# Altium footprint library final pedal1.PcbLib: 14 footprints
Each footprint in its own frame and in the unit in brackets; x right, y up, seen from the top. Pads: shape width x height; smd on the part's side, far side on the other; paste and mask are expansions set on the pad; w line width, h text height; cw(c..) or ccw(c..) is an arc to the next point about the centre after c.
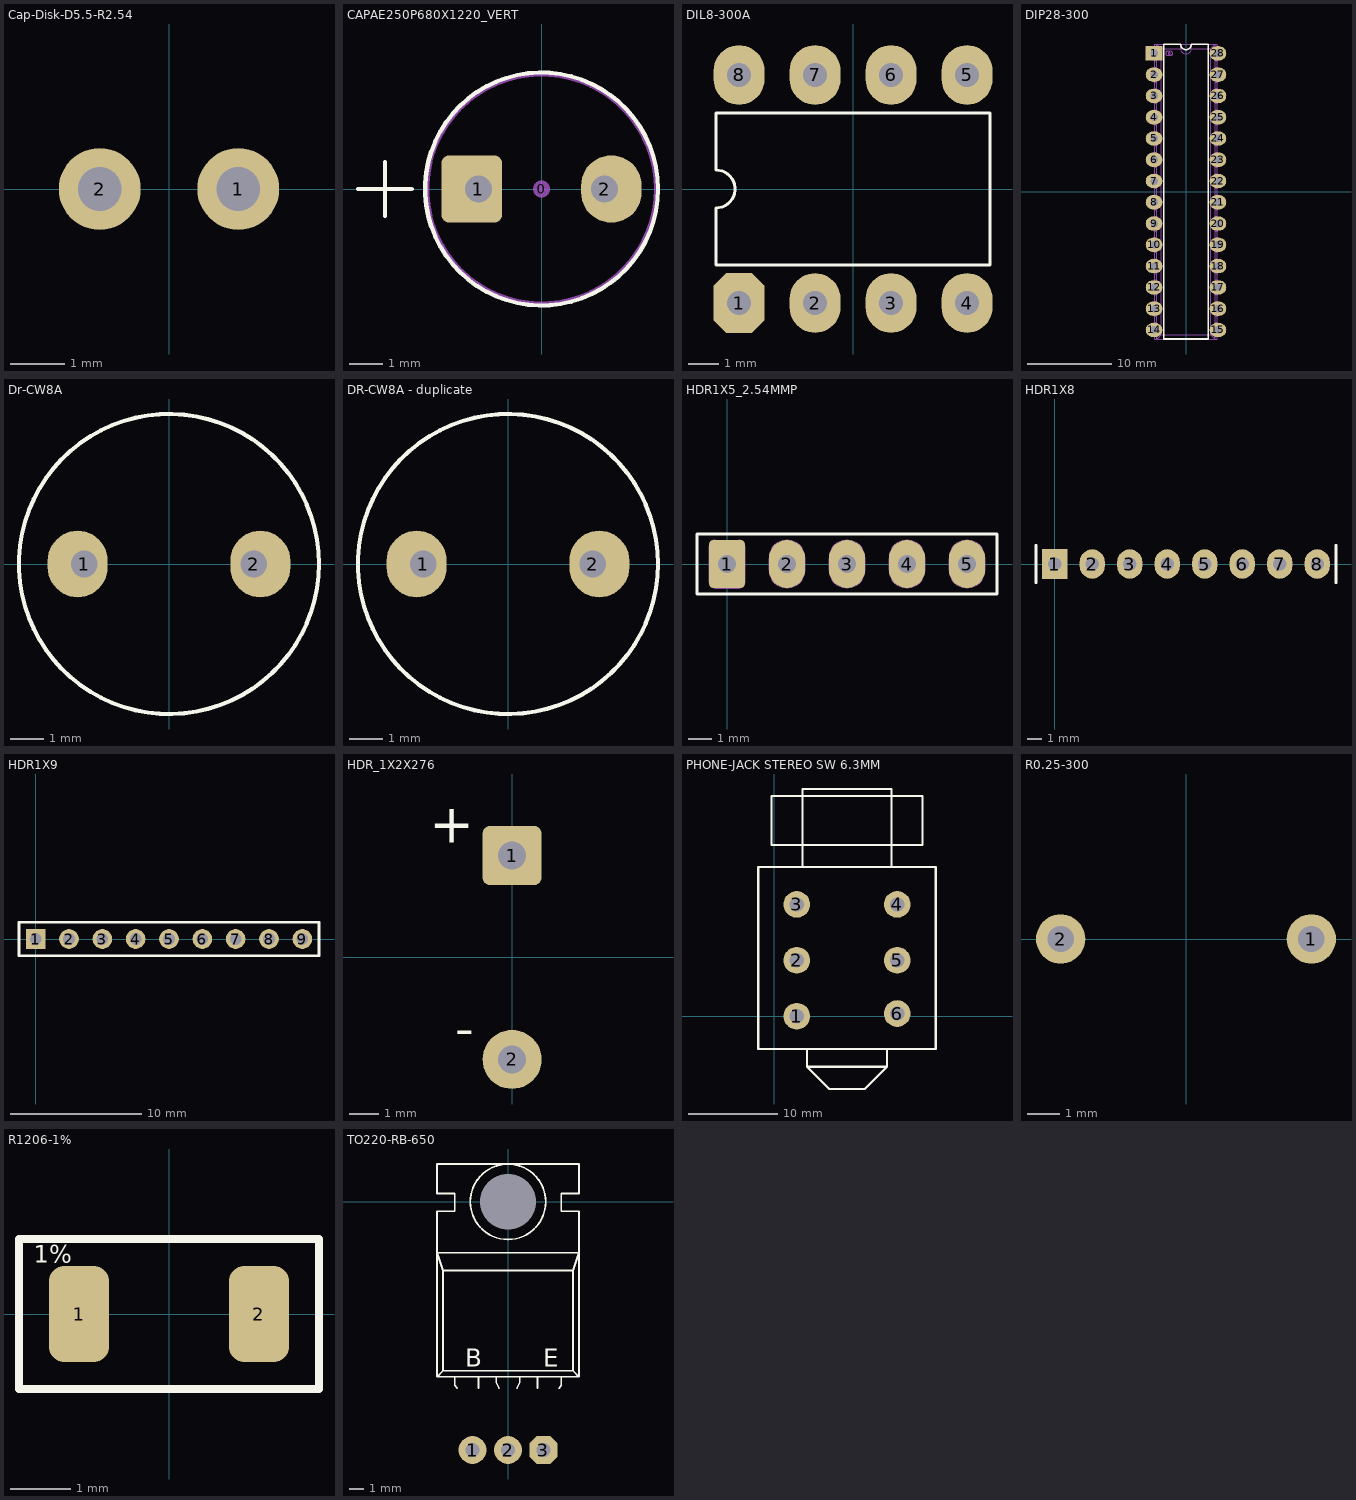
[diagram p0: the footprints below, top view; thin cyan lines are the x and y axes]

## Cap-Disk-D5.5-R2.54 [mm]
pads (2):
  round 1.5 hole 0.8: 1(1.27,0) 2(-1.27,0)
Bottom Overlay:
  lines w0.127: -1.9,-0.85 cw(c-1.9,0) -1.9,0.85 1.9,0.85 cw(c1.9,0) 1.9,-0.85 -1.9,-0.85
3D body: height 6.25, standoff -1.5, extent -2.75,-0.86 2.749,0.86

## CAPAE250P680X1220_VERT [mm]
height 12.2
pads (3):
  round 0.508 on Mech15: 0(0,0)
  rrect25% 1.8x2 hole 0.8 copper offset -0.2,0: 1(-1.873,0)
  oval 1.8x2 hole 0.8 copper offset 0.2,0: 2(1.873,0)
Top Overlay:
  circle w0.127: c0,0 r3.459
  lines w0.127: -5.45,0 -3.85,0 ; -4.65,-0.8 -4.65,0.8
Mechanical 13:
  circle w0.127: c0,0 r3.4
3D body: height 12.2, standoff -1.78, extent -3.372,-3.372 3.371,3.372

## DIL8-300A [mm]
pads (8):
  oct 1.7x2 hole 0.8: 1(-3.81,-3.81)
  oval 1.7x2 hole 0.8: 2(-1.27,-3.81) 3(1.27,-3.81) 4(3.81,-3.81) 5(3.81,3.81) 6(1.27,3.81) 7(-1.27,3.81) 8(-3.81,3.81)
Top Overlay:
  lines w0.1: -4.58,-2.54 -4.58,-0.635 ccw(c-4.58,0) -4.58,0.635 -4.58,2.54 4.58,2.54 4.58,-2.54 -4.58,-2.54
3D body: height 3.88, standoff -2.5, extent -4.58,-3.96 4.58,3.96

## DIP28-300 [mm] "DIP 28 Leads, Row Spacing 7.62mm; Pitch 2.54mm"
height 4.57
pads (28):
  rect 2x1.7 hole 0.9: 1(-3.81,16.51)
  oval 2x1.7 hole 0.9: 2(-3.81,13.97) 3(-3.81,11.43) 4(-3.81,8.89) 5(-3.81,6.35) 6(-3.81,3.81) 7(-3.81,1.27) 8(-3.81,-1.27) 9(-3.81,-3.81) 10(-3.81,-6.35) 11(-3.81,-8.89) 12(-3.81,-11.43) 13(-3.81,-13.97) 14(-3.81,-16.51) 15(3.81,-16.51) 16(3.81,-13.97) 17(3.81,-11.43) 18(3.81,-8.89) 19(3.81,-6.35) 20(3.81,-3.81) 21(3.81,-1.27) 22(3.81,1.27) 23(3.81,3.81) 24(3.81,6.35) 25(3.81,8.89) 26(3.81,11.43) 27(3.81,13.97) 28(3.81,16.51)
Top Overlay:
  lines w0.2: -2.65,-17.59 2.65,-17.59 2.65,17.59 0.635,17.59 cw(c0,17.59) -0.635,17.59 -2.65,17.59 -2.65,-17.59
Mechanical 8:
  drawing of 205 lines, arcs and shapes, not listed
Mechanical 14:
  circle w0.1: c-1.84,16.51 r0.254
  lines w0.1: -3.745,-17.59 3.745,-17.59 3.745,17.59 0.635,17.59 cw(c0,17.59) -0.635,17.59 -3.745,17.59 -3.745,-17.59
3D body: height 4.57, standoff -3.3, extent -3.935,-17.59 3.935,17.59

## Dr-CW8A [mm]
height 0.7
pads (2):
  oval 1.8x2 hole 0.8 copper offset -0.2,0: 1(-2.54,0)
  oval 1.8x2 hole 0.8 copper offset 0.2,0: 2(2.54,0)
Top Overlay:
  circle w0.127: c0,0 r4.5
3D body: height 13.27, standoff -3.48, extent -4.5,-4.5 4.5,4.5

## DR-CW8A - duplicate [mm]
pads (2):
  oval 1.8x2 hole 0.8 copper offset -0.2,0: 1(-2.54,0)
  oval 1.8x2 hole 0.8 copper offset 0.2,0: 2(2.54,0)
Top Overlay:
  circle w0.127: c0,0 r4.5
3D body: height 13.27, standoff -3.48, extent -4.5,-4.5 4.5,4.5

## HDR1X5_2.54MMP [mil] "Connector; Header; 5 Position 0.100\" pitch"
pads (5):
  rrect25% 60x80 hole 30: 1(0,0)
  oval 60x80 hole 30: 2(100,0) 3(200,0) 4(300,0) 5(400,0)
Top Overlay:
  lines w5: -50,-50 -50,50 450,50 450,-50 -50,-50
Mechanical 13:
  circle w1.97: c0,0 r15
  circle w1.97: c100,0 r15
  circle w1.97: c200,0 r15
  circle w1.97: c300,0 r15
  circle w1.97: c400,0 r15
  lines w1.97: -30,-30 ccw(c-20,-30) -20,-40 20,-40 ccw(c20,-30) 30,-30 30,30 ccw(c20,30) 20,40 -20,40 ccw(c-20,30) -30,30 -30,-30 ; 70,-10 ccw(c100,-10) 130,-10 130,10 ccw(c100,10) 70,10 70,-10 ; 170,-10 ccw(c200,-10) 230,-10 230,10 ccw(c200,10) 170,10 170,-10 ; 270,-10 ccw(c300,-10) 330,-10 330,10 ccw(c300,10) 270,10 270,-10 ; 370,-10 ccw(c400,-10) 430,-10 430,10 ccw(c400,10) 370,10 370,-10

## HDR1X8 [mm] "Connector; Header; 8 Position"
height 0.7
pads (8):
  rect 1.7x2 hole 0.9: 1(0,0)
  oval 1.7x2 hole 0.9: 2(2.54,0) 3(5.08,0) 4(7.62,0) 5(10.16,0) 6(12.7,0) 7(15.24,0) 8(17.78,0)
Top Overlay:
  lines w0.2: -1.27,-1.27 -1.27,1.27 ; 19.05,-1.27 19.05,1.27

## HDR1X9 [mm] "Connector; Header; 9 Position"
pads (9):
  rect 1.5x1.5 hole 0.9: 1(0,0)
  round 1.5 hole 0.9: 2(2.54,0) 3(5.08,0) 4(7.62,0) 5(10.16,0) 6(12.7,0) 7(15.24,0) 8(17.78,0) 9(20.32,0)
Top Overlay:
  lines w0.2: -1.27,-1.27 -1.27,1.27 21.59,1.27 21.59,-1.27 -1.27,-1.27

## HDR_1X2X276 [mil]
pads (2):
  rrect25% 80x80 hole 38: 1(0,137.8)
  round 80 hole 38: 2(0,-137.8)
Top Overlay:
  text "+" at -51.18,137.8 h90
  text "-" at -51.18,-137.8 h90
Bottom Overlay:
  text "-" at -51.18,-137.8 h90
  text "+" at -51.18,137.8 h90
3D body: height -3, standoff -5, extent -19.84,117.84 20,157.76
3D body: height -3, standoff -5, extent -19.84,-157.75 20,-117.83

## PHONE-JACK STEREO SW 6.3MM [mm] "SJ-6306"
pads (6):
  round 3 hole 1.6: 1(2.54,0) 2(2.54,6.3) 3(2.54,12.6) 4(13.86,12.6) 5(13.86,6.3) 6(13.86,0.3)
Top Overlay:
  lines w0.25: 3.2,16.8 3.2,25.6 13.2,25.6 13.2,16.8 ; -1.8,-3.7 18.2,-3.7 18.2,16.8 -1.8,16.8 -1.8,-3.7
  lines w0.254: 3.7,-3.7 3.7,-5.7 ; 12.7,-3.7 12.7,-5.7 ; 14.2,-3.7 14.7,-3.7 ; 3.7,-5.7 6.2,-8.2 10.2,-8.2 12.7,-5.7 ; 3.7,-5.7 12.7,-5.7 ; -0.3,19.3 16.7,19.3 16.7,24.8 -0.3,24.8 -0.3,19.3
3D body: height 16, standoff -3.94, extent -0.815,-6.93 17.385,24.864

## R0.25-300 [mm]
pads (2):
  round 1.5 hole 0.8: 1(3.81,0) 2(-3.81,0)
Bottom Overlay:
  lines w0.127: -3.556,0 -3.2,0 ; 3.175,0 3.556,0 ; -3.175,-1.15 3.175,-1.15 3.175,1.15 -3.175,1.15 -3.175,-1.15
3D body: height 2.3, standoff -2.54, extent -4.11,-1.15 4.11,1.15

## R1206-1% [mm]
pads (2):
  rrect50% 1x1.6 smd: 1(-1.5,0) 2(1.5,0)
Top Overlay:
  lines w0.125: -2.5,-1.25 -2.5,1.25 2.5,1.25 2.5,-1.25 -2.5,-1.25
  text "1%" at -2.25,0.75 h0.5
3D body: height 0.6, standoff 0, extent -1.65,-0.811 1.55,0.789

## TO220-RB-650 [mm]
pads (4):
  round 0 hole 4 unplated: 0(0,0)
  round 2 hole 1: 1(-2.54,-17.78) 2(0,-17.78)
  oct 2x2 hole 1: 3(2.54,-17.78)
Top Overlay:
  circle w0.127: c0,0 r2.7
  lines w0.127: -3.81,-13.166 -3.81,-12.531 ; -3.762,-13.198 -3.647,-13.359 ; -2.117,-13.359 -2.117,-12.531 ; -0.847,-12.531 -0.847,-12.954 -0.635,-13.359 ; 0.635,-13.359 0.847,-12.954 0.847,-12.531 ; 2.117,-13.359 2.117,-12.531 ; 3.655,-13.359 3.818,-13.142 ; 3.81,-13.166 3.81,-12.531 ; -5.08,-12.531 -4.657,-12.107 ; -5.08,-12.531 5.08,-12.531 ; -5.08,-12.531 -5.08,-0.677 -3.81,-0.677 -3.81,0.593 -5.08,0.593 -5.08,2.709 5.08,2.709 5.08,0.593 3.81,0.593 3.81,-0.677 5.08,-0.677 5.08,-12.531 ; -4.657,-12.107 4.657,-12.107 ; -4.657,-12.107 -4.657,-4.911 ; -4.657,-4.911 4.657,-4.911 ; -4.657,-4.911 -5.08,-3.641 5.08,-3.641 4.657,-4.911 ; 4.657,-12.107 5.08,-12.531 ; 4.657,-12.107 4.657,-4.911
  text "B" at -3.048,-11.811 h1.27
  text "E" at 2.54,-11.811 h1.27
3D body: height 1.72, standoff -5, extent -5.08,-17.97 5.08,2.58